# Altium integrated library DRV5053RAQDBZT.IntLib: 1 symbol
Pins are listed as number, name and electrical type; pins without a type are passive.

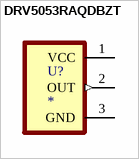
[diagram p0: symbol DRV5053RAQDBZT]

## DRV5053RAQDBZT
designator U?
SENSOR LINEAR ANALOG SOT23-3; MP: DRV5053RAQDBZT; Package: None; Price: None; Value: *; Availability: Unavailable
footprint SOT95P237X112-3N
pins: 1 VCC (power), 2 OUT (out), 3 GND (power)